# EAGLE library part LCD_240X320 (library Dal_V2)
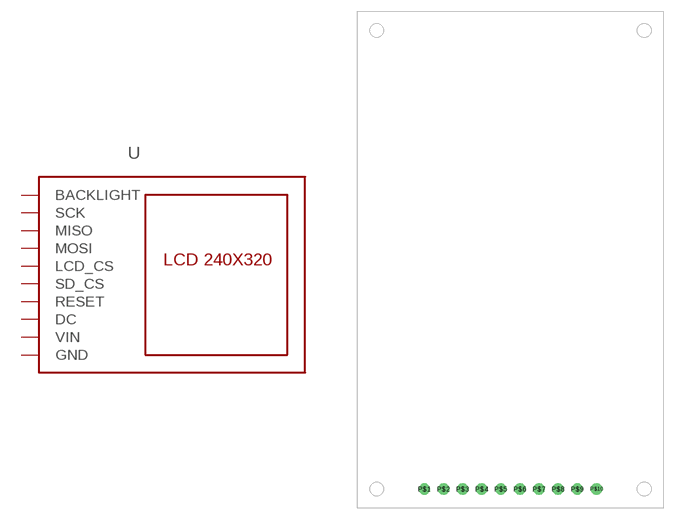
[diagram p13: symbol with the pads of TFT_DISPLAY_2.2_240X320; footprint TFT_DISPLAY_2.2_240X320]

Designator prefix U

## LCD_240X320  [TFT_DISPLAY_2.2_240X320]
P$1  BACKLIGHT  pas
P$2  SCK  pas
P$3  MISO  pas
P$4  MOSI  pas
P$5  LCD_CS  pas
P$6  SD_CS  pas
P$7  RESET  pas
P$8  DC  pas
P$9  VIN  pas
P$10  GND  pas

## Footprint TFT_DISPLAY_2.2_240X320 (pad centres in mm)
drill 1: P$1 0,0; P$2 2.54,0; P$3 5.08,0; P$4 7.62,0; P$5 10.16,0; P$6 12.7,0; P$7 15.24,0; P$8 17.78,0; P$9 20.32,0; P$10 22.86,0